# EAGLE library part SN754410 (library voodoo)
SN754410 double dc motor driver IC
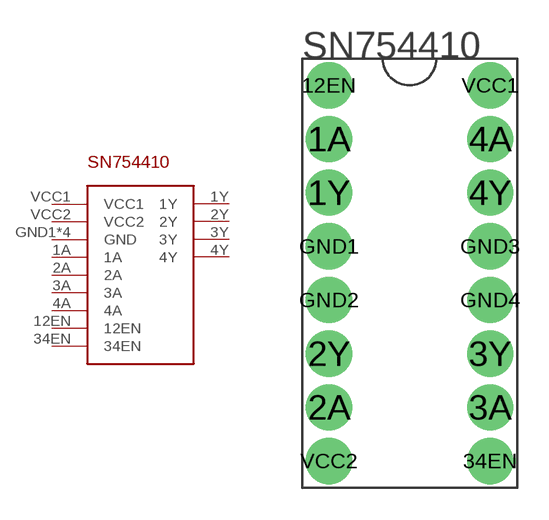
[diagram p1: symbol with the pads of SN754410; footprint SN754410]

Designator prefix -

## SN754410  [SN754410]
1A  1A  in
1Y  1Y  out
2A  2A  in
2Y  2Y  out
3A  3A  in
3Y  3Y  out
4A  4A  in
4Y  4Y  out
12EN  12EN  in
34EN  34EN  in
GND1  GND  pwr
GND2  GND  pwr
GND3  GND  pwr
GND4  GND  pwr
VCC1  VCC1  pwr
VCC2  VCC2  pwr

## Footprint SN754410 (pad centres in mm)
drill 0.8 pad 2.184: 1A -3.81,6.35; 1Y -3.81,3.81; 2A -3.81,-6.35; 2Y -3.81,-3.81; 3A 3.81,-6.35; 3Y 3.81,-3.81; 4A 3.81,6.35; 4Y 3.81,3.81; 12EN -3.81,8.89; 34EN 3.81,-8.89; GND1 -3.81,1.27; GND2 -3.81,-1.27; GND3 3.81,1.27; GND4 3.81,-1.27; VCC1 3.81,8.89; VCC2 -3.81,-8.89